# Altium schematic symbol library AP22802AW5-7.SchLib: 2 symbols
Pins are listed as number, name and electrical type; pins without a type are passive.

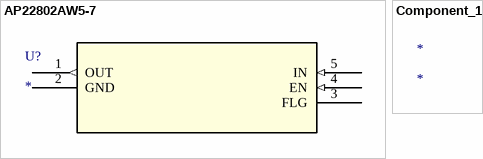
[diagram p0: symbols AP22802AW5-7 to Component_1]

## AP22802AW5-7
designator U?
No Description Available; Mfr_Name: Diodes Inc; RefDes: RefDes; Type: Type
footprint SOT25_DIO
pins: 1 OUT (out), 2 GND (power), 3 FLG, 4 EN (in), 5 IN (in)

## Component_1
designator *